# Altium footprint library SX1276_e268v01a.PcbLib: 66 footprints (part 3 of 5)
Each footprint in its own frame and in the unit in brackets; x right, y up, seen from the top. Pads: shape width x height; smd on the part's side, far side on the other; paste and mask are expansions set on the pad; w line width, h text height; cw(c..) or ccw(c..) is an arc to the next point about the centre after c.
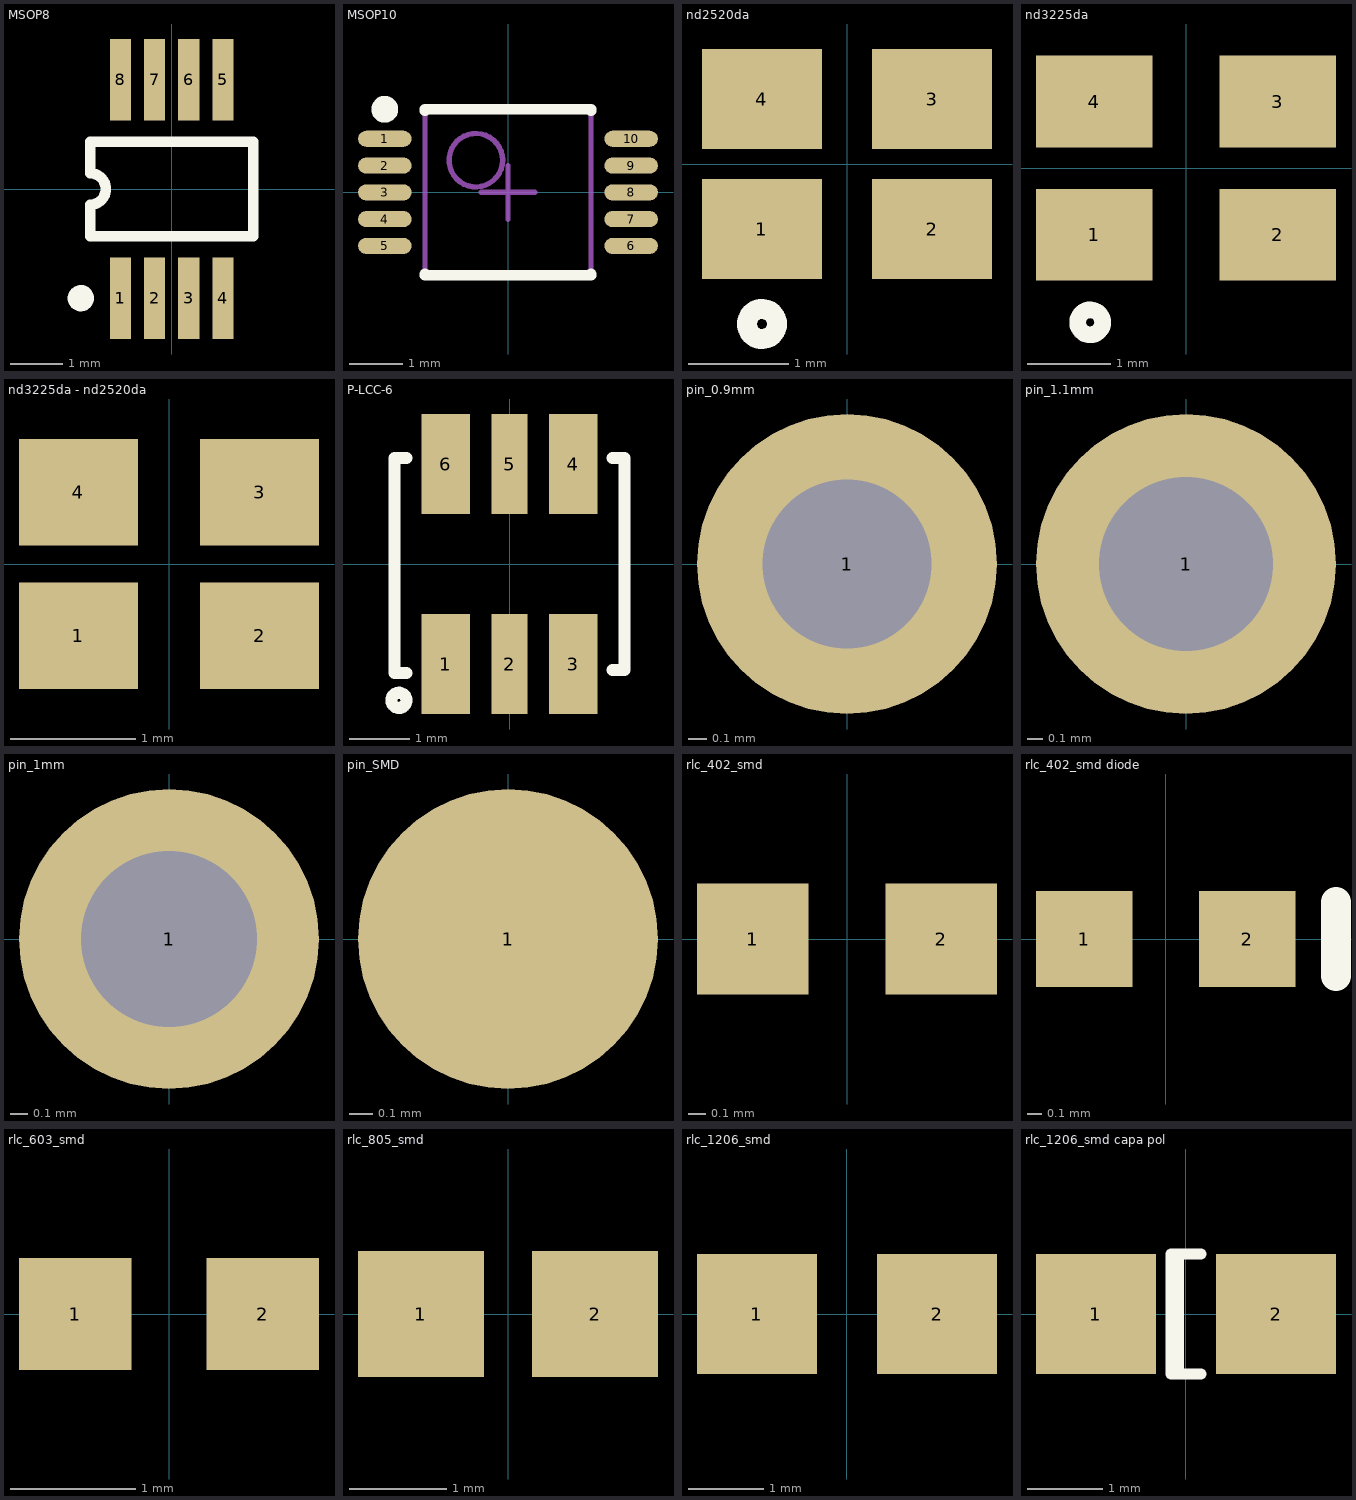
[diagram p2: the footprints below, top view; thin cyan lines are the x and y axes]

## MSOP8 [mm] "Shrink Small Outline; 8 Leads; Body Width 3 mm; Pitch 0.65 mm"
height 1.17
pads (8):
  rect 0.4x1.55 smd: 1(-0.975,-2.075) 2(-0.325,-2.075) 3(0.325,-2.075) 4(0.975,-2.075) 5(0.975,2.075) 6(0.325,2.075) 7(-0.325,2.075) 8(-0.975,2.075)
Top Overlay:
  circle w0.25: c-1.725,-2.075 r0.125
  lines w0.2: -1.55,-0.9 -1.55,-0.3 ccw(c-1.55,0) -1.55,0.3 -1.55,0.9 1.55,0.9 1.55,-0.9 -1.55,-0.9

## MSOP10 [mm] "MSPO, 10-Leads, Body 3x3 mm, Pitch 0.5mm, IPC Medium Density"
height 0.8
pads (10):
  oval 1x0.3 smd: 1(-2.3,1) 2(-2.3,0.5) 3(-2.3,0) 4(-2.3,-0.5) 5(-2.3,-1) 6(2.3,-1) 7(2.3,-0.5) 8(2.3,0) 9(2.3,0.5) 10(2.3,1)
Top Overlay:
  circle w0.25: c-2.3,1.55 r0.125
  lines w0.2: -1.55,-1.525 -1.55,-1.55 1.55,-1.55 1.55,-1.525 ; -1.55,1.525 -1.55,1.55 1.55,1.55 1.55,1.525
Mechanical 13:
  circle w0.1: c-0.6,0.6 r0.5
  lines w0.1: -1.55,-1.55 1.55,-1.55 1.55,1.55 -1.55,1.55 -1.55,-1.55
Mechanical 15:
  lines w0.1: -0.5,0 0.5,0 ; 0,-0.5 0,0.5
3D body: height 0.8, standoff 0, extent -1.55,-1.55 1.55,1.55

## nd2520da [mm] "Crystal SMD 2.5x2.0mm"
height 0.7
pads (4):
  rect 1.2x1 smd mask+0.05: 1(-0.85,-0.65) 2(0.85,-0.65) 3(0.85,0.65) 4(-0.85,0.65)
Top Overlay:
  circle w0.2: c-0.85,-1.6 r0.15
3D body: height 1, standoff 0, extent -1.25,-1 1.25,1

## nd3225da [mm] "Crystal SMD 3.2x2.5mm"
height 0.8
pads (4):
  rect 1.4x1.1 smd mask+0.05: 1(-1.1,-0.8) 2(1.1,-0.8) 3(1.1,0.8) 4(-1.1,0.8)
Top Overlay:
  circle w0.2: c-1.15,-1.85 r0.15
3D body: height 1, standoff 0, extent -1.6,-1.25 1.6,1.25

## nd3225da - nd2520da [mm] "Crystal SMD 3.2x2.5mm compatible with 2.5x2.0mm"
height 0.8
pads (4):
  rect 0.95x0.85 smd mask+0.05: 1(-0.725,-0.575) 2(0.725,-0.575) 3(0.725,0.575) 4(-0.725,0.575)
3D body: height 1, standoff 0, extent -1.25,-1.05 1.25,1.05

## P-LCC-6 [mm] "P-LCC-6 Package"
height 1.25
pads (6):
  rect 0.8x1.65 smd: 1(-1.05,-1.65) 3(1.05,-1.65) 4(1.05,1.65) 6(-1.05,1.65)
  rect 0.6x1.65 smd: 2(0,-1.65) 5(0,1.65)
Top Overlay:
  circle w0.2: c-1.825,-2.25 r0.125
  lines w0.2: -1.7,-1.8 -1.9,-1.8 -1.9,1.75 -1.7,1.75 ; 1.7,-1.75 1.9,-1.75 1.9,1.75 1.7,1.75

## pin_0.9mm [mm] "Generic Pin 0.9mm; 1 Lead"
height 1
pads (1):
  round 1.6 hole 0.9 mask+0.05: 1(0,0)

## pin_1.1mm [mm] "Generic Pin 1.1mm; 1 Lead"
height 1
pads (1):
  round 1.9 hole 1.1 mask+0.05: 1(0,0)

## pin_1mm [mm] "Generic Pin 1.1mm; 1 Lead"
height 1
pads (1):
  round 1.7 hole 1 paste+0 mask+0.05: 1(0,0)

## pin_SMD [mm] "Generic Pin; 1 pin SMD"
height 0.5
pads (1):
  round 1.27 smd paste-1 mask+0.05: 1(0,0)

## rlc_402_smd [mm] "Chip SMD component 402; Body 1.0 x 0.5 mm (LxW typ)"
height 0.8
pads (2):
  rect 0.65x0.65 smd mask+0.05: 1(-0.55,0) 2(0.55,0)

## rlc_402_smd diode [mm] "Chip SMD component 402; Body 1.0 x 0.5 mm (LxW typ)"
height 0.8
pads (2):
  rect 0.65x0.65 smd mask+0.05: 1(-0.55,0) 2(0.55,0)
Top Overlay:
  lines w0.2: 1.15,-0.25 1.15,0.25

## rlc_603_smd [mm] "Chip SMD component 603; Body 1.6 x 0.8mm (LxW typ)"
height 1
pads (2):
  rect 0.9x0.9 smd paste+0 mask+0.05: 1(-0.75,0) 2(0.75,0)

## rlc_805_smd [mm] "Chip SMD component 805; Body 2.0 x 1.25 mm (LxW typ)"
height 1.4
pads (2):
  rect 1.3x1.3 smd mask+0.05: 1(-0.9,0) 2(0.9,0)

## rlc_1206_smd [mm] "Chip SMD component 1206; Body 3.2 x 1.6 mm (LxW typ)"
height 2
pads (2):
  rect 1.6x1.6 smd mask+0.05: 1(-1.2,0) 2(1.2,0)

## rlc_1206_smd capa pol [mm] "Chip SMD component 1206; Body 3.2 x 1.6 mm (LxW typ)"
height 2
pads (2):
  rect 1.6x1.6 smd mask+0.05: 1(-1.2,0) 2(1.2,0)
Top Overlay:
  lines w0.15: -0.1,-0.8 -0.1,0.8 ; 0.2,-0.8 -0.2,-0.8 -0.2,0.8 0.2,0.8